# Altium footprint library Contours.PcbLib: 1 footprints
Each footprint in its own frame and in the unit in brackets; x right, y up, seen from the top. Pads: shape width x height; smd on the part's side, far side on the other; paste and mask are expansions set on the pad; w line width, h text height; cw(c..) or ccw(c..) is an arc to the next point about the centre after c.
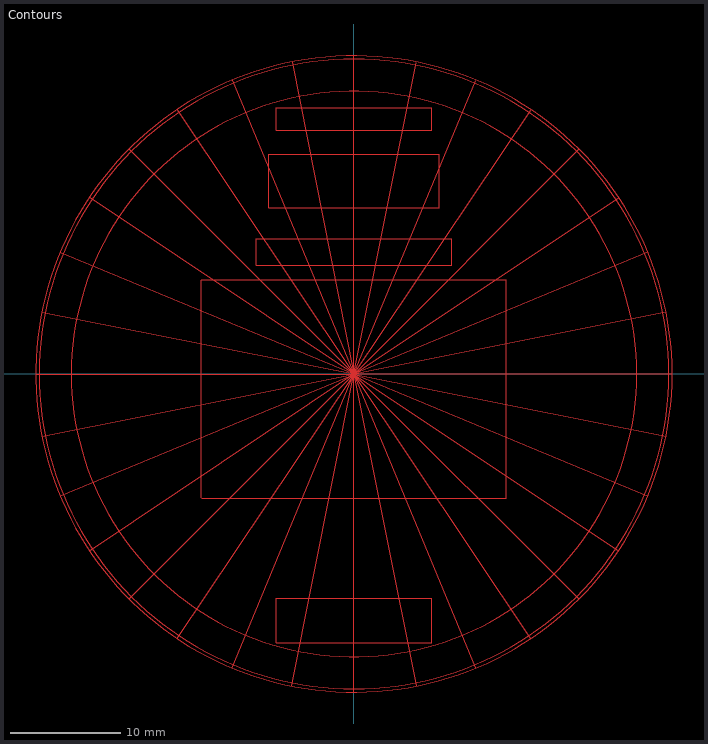
[diagram p0: the footprint, top view; thin cyan lines are the x and y axes]

## Contours [mm]
Top Layer:
  circle w0.1: c0,0 r28.7
  circle w0.1: c0,0 r28.4
  circle w0.1: c0,0 r25.5
  lines w0.1: -28.684,-0.008 0,-0.008 ; -28.117,-5.604 -0.005,-0.013 ; -28.111,5.589 0,0 ; -26.492,10.961 0,0 ; -26.479,-10.968 0.002,-0.001 ; -23.833,15.922 0,0 ; -23.832,-15.923 0,0 ; -20.277,20.251 -20.251,20.251 0,0 ; -20.276,-20.277 -0.005,-0.013 ; -15.923,23.832 0,0 ; -15.922,-23.833 0.002,-0.001 ; -13.775,-11.175 -13.775,8.475 -13.75,8.5 13.75,8.5 13.75,-11.2 -13.75,-11.2 ; -10.98,26.481 0,0 ; -10.97,-26.49 0,-0.008 ; -5.603,-28.119 -0.005,-0.013 ; -5.588,28.123 0,0 ; -0.011,-28.663 0,0 ; -0.01,-22.226 -0.008,-22.225 ; 0,28.675 0,-0.008 ; 5.603,-28.127 0,-0.008 ; 5.603,28.094 0,-0.008 ; 10.938,-26.484 -0.005,-0.013 ; 10.97,26.465 -0.005,-0.013 ; 15.916,-23.845 -0.005,-0.013 ; 15.922,23.808 -0.005,-0.013 ; 20.267,-20.287 -0.005,-0.013 ; 20.287,20.267 0.002,-0.001 ; 23.833,-15.947 -0.005,-0.013 ; 23.87,15.916 0.002,-0.001 ; 26.465,-10.97 0,0 ; 26.484,11.005 0,0 ; 28.102,5.603 0,0 ; 28.144,-5.603 0.002,-0.001 ; 28.663,0.014 0,0 ; -8.8,9.8 8.8,9.8 8.8,12.2 -8.8,12.2 -8.8,11 -8.8,9.8 ; -7.7,15 0,15 7.7,15 7.7,19.8 -7.7,19.8 -7.7,15 ; -7,22 -7,24 7,24 7,22 0,22 -7,22 ; -6.999,-24.224 6.999,-24.224 6.999,-22.226 6.999,-20.226 -6.999,-20.226 -6.999,-24.224